# EAGLE library part ETD29 (library T-FERRITE)
IEC 61185 SMPS transformer N87, A[L] = 2200 +30/–20% nH without gap
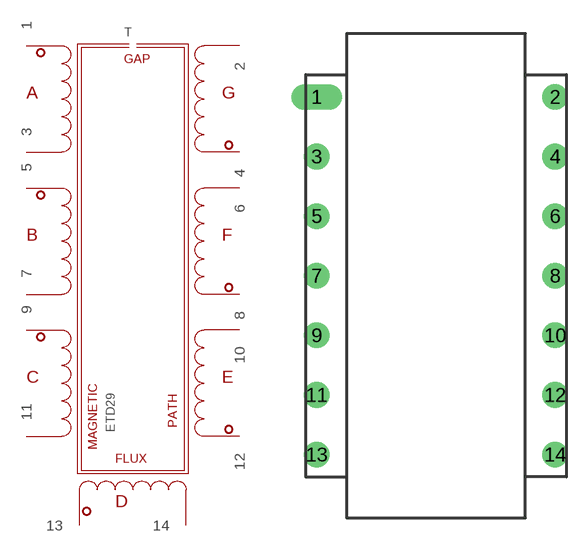
[diagram p0: symbol with the pads of B66359X1014T001; footprint B66359X1014T001]

Designator prefix T

## ETD29N87V14A20B20C7D7E7F7G7  [B66359X1014T001]
1  1  pas
2  2  pas
3  3  pas
4  4  pas
5  5  pas
6  6  pas
7  7  pas
8  8  pas
9  9  pas
10  10  pas
11  11  pas
12  12  pas
13  13  pas
14  14  pas

## Footprint B66359X1014T001 (pad centres in mm)
EPCOS PN: B66359X1014T001 14 Pin COIL FORMER VERTICAL MAGNETIC AXIS RYNITE FR 530
drill 1.27 pad 2.184 long: 1 -10.16,15.24
drill 1.27 pad 2.184: 2 10.16,15.24; 3 -10.16,10.16; 4 10.16,10.16; 5 -10.16,5.08; 6 10.16,5.08; 7 -10.16,0; 8 10.16,0; 9 -10.16,-5.08; 10 10.16,-5.08; 11 -10.16,-10.16; 12 10.16,-10.16; 13 -10.16,-15.24; 14 10.16,-15.24